# Altium integrated library EL14.IntLib: 1 symbol
Pins are listed as number, name and electrical type; pins without a type are passive.

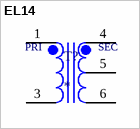
[diagram p0: symbol EL14]

## EL14
designator T?
Audio Isolation Transformer 600:600 Ohm 1:1 EI14; Value: 600 Ohm each side; MF: Sunrom; MP: EL14; Price: None; Availability: Unavailable; ComponentLink1Description: Purchase Link; ComponentLink1URL: http://www.sunrom.com/m/5132
footprint EL14 (Audio Isolation Transformer 600:600 Ohm 1:1 EI14)
pins: 1, 3, 4, 5, 6
text: PRI; SEC